# EAGLE library part ADS124S08IPBSR (library maholli)
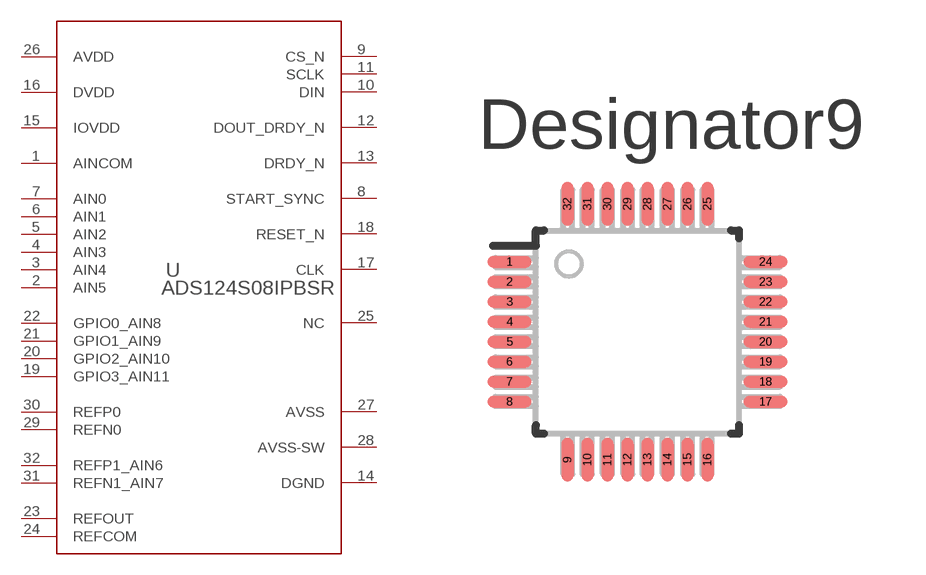
[diagram p4: symbol with the pads of PBS0032A_N; footprint PBS0032A_N]

Designator prefix U

## ADS124S08IPBSR (MANUFACTURER: Texas Instruments; PARTNUMBER: ADS124S08IPBSR; REFDES: RefDes; TYPE: TYPE; VALUE: Value)  [PBS0032A_N]
1  AINCOM  in
2  AIN5  in
3  AIN4  in
4  AIN3  in
5  AIN2  in
6  AIN1  in
7  AIN0  in
8  START_SYNC  in
9  CS_N  in
10  DIN  in
11  SCLK  in
12  DOUT_DRDY_N  out
13  DRDY_N  out
14  DGND  pwr
15  IOVDD  pwr
16  DVDD  pwr
17  CLK  in
18  RESET_N  in
19  GPIO3_AIN11
20  GPIO2_AIN10
21  GPIO1_AIN9
22  GPIO0_AIN8
23  REFOUT  out
24  REFCOM  out
25  NC  pas
26  AVDD  pwr
27  AVSS  pwr
28  AVSS-SW  pwr
29  REFN0  in
30  REFP0  in
31  REFN1_AIN7  in
32  REFP1_AIN6  in

## Footprint PBS0032A_N (pad centres in mm)
smd 1.1 x 0.3: 1 -3.2,1.75; 2 -3.2,1.25; 3 -3.2,0.75; 4 -3.2,0.25; 5 -3.2,-0.25; 6 -3.2,-0.75; 7 -3.2,-1.25; 8 -3.2,-1.75; 17 3.2,-1.75; 18 3.2,-1.25; 19 3.2,-0.75; 20 3.2,-0.25; 21 3.2,0.25; 22 3.2,0.75; 23 3.2,1.25; 24 3.2,1.75
smd 0.3 x 1.1: 9 -1.75,-3.2; 10 -1.25,-3.2; 11 -0.75,-3.2; 12 -0.25,-3.2; 13 0.25,-3.2; 14 0.75,-3.2; 15 1.25,-3.2; 16 1.75,-3.2; 25 1.75,3.2; 26 1.25,3.2; 27 0.75,3.2; 28 0.25,3.2; 29 -0.25,3.2; 30 -0.75,3.2; 31 -1.25,3.2; 32 -1.75,3.2